# EAGLE library part MAX11625EEG+ (library SamacSys_Parts)
Analog to Digital Converters - ADC 10-Bit, 300ksps ADCs with FIFO and Internal Reference Source: Datasheet <https://datasheets.maximintegrated.com/en/ds/MAX11618-MAX11625.pdf>
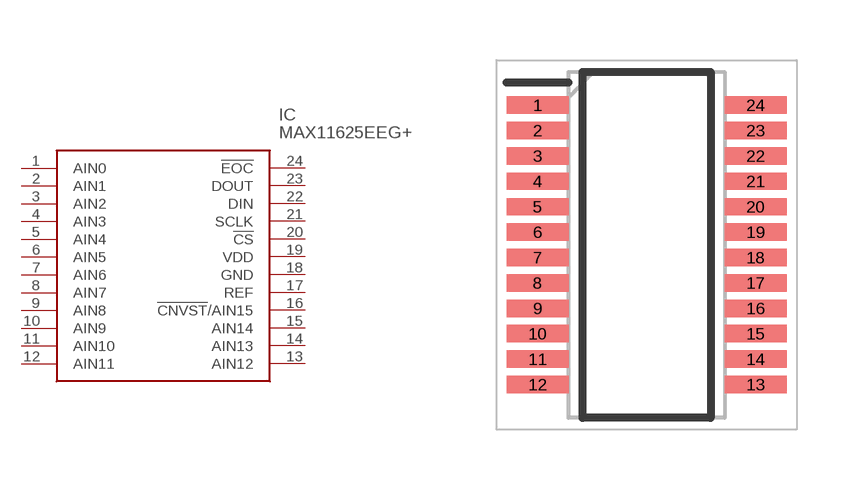
[diagram p0: symbol with the pads of SOP64P602X175-24N; footprint SOP64P602X175-24N]

Designator prefix IC

## MAX11625EEG+ (DESCRIPTION: Analog to Digital Converters - ADC 10-Bit, 300ksps ADCs with FIFO and Internal Reference; HEIGHT: 1.75mm; MANUFACTURER_NAME: Analog Devices; MANUFACTURER_PART_NUMBER: MAX11625EEG+; MOUSER_PART_NUMBER: 700-MAX11625EEG+; MOUSER_PRICE-STOCK: https://www.mouser.co.uk/ProductDetail/Maxim-Integrated/MAX11625EEG%2b?qs=PRS7r23SwzyO6iqSrf6Wlw%3D%3D)  [SOP64P602X175-24N]
1  AIN0
2  AIN1
3  AIN2
4  AIN3
5  AIN4
6  AIN5
7  AIN6
8  AIN7
9  AIN8
10  AIN9
11  AIN10
12  AIN11
13  AIN12
14  AIN13
15  AIN14
16  !CNVST!/AIN15
17  REF
18  GND
19  VDD
20  !CS
21  SCLK
22  DIN
23  DOUT
24  !EOC

## Footprint SOP64P602X175-24N (pad centres in mm)
MAX1168BEEG+
smd 1.55 x 0.435: 1 -2.725,3.492; 2 -2.725,2.858; 3 -2.725,2.222; 4 -2.725,1.588; 5 -2.725,0.952; 6 -2.725,0.318; 7 -2.725,-0.318; 8 -2.725,-0.952; 9 -2.725,-1.588; 10 -2.725,-2.222; 11 -2.725,-2.858; 12 -2.725,-3.492; 13 2.725,-3.492; 14 2.725,-2.858; 15 2.725,-2.222; 16 2.725,-1.588; 17 2.725,-0.952; 18 2.725,-0.318; 19 2.725,0.318; 20 2.725,0.952; 21 2.725,1.588; 22 2.725,2.222; 23 2.725,2.858; 24 2.725,3.492